# Altium schematic symbol library ER900TRS.SchLib: 1 symbol
Pins are listed as number, name and electrical type; pins without a type are passive.

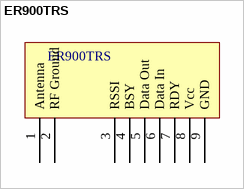
[diagram p0: symbol ER900TRS]

## ER900TRS
designator ER900TRS, comment Easy Radio 900MHz  (value not drawn)
pins: 1 Antenna, 2 RF Ground, 3 RSSI, 4 BSY, 5 Data Out, 6 Data In, 7 RDY, 8 Vcc, 9 GND